# Altium footprint library PH.PcbLib: 64 footprints (part 2 of 4)
Each footprint in its own frame and in the unit in brackets; x right, y up, seen from the top. Pads: shape width x height; smd on the part's side, far side on the other; paste and mask are expansions set on the pad; w line width, h text height; cw(c..) or ccw(c..) is an arc to the next point about the centre after c.
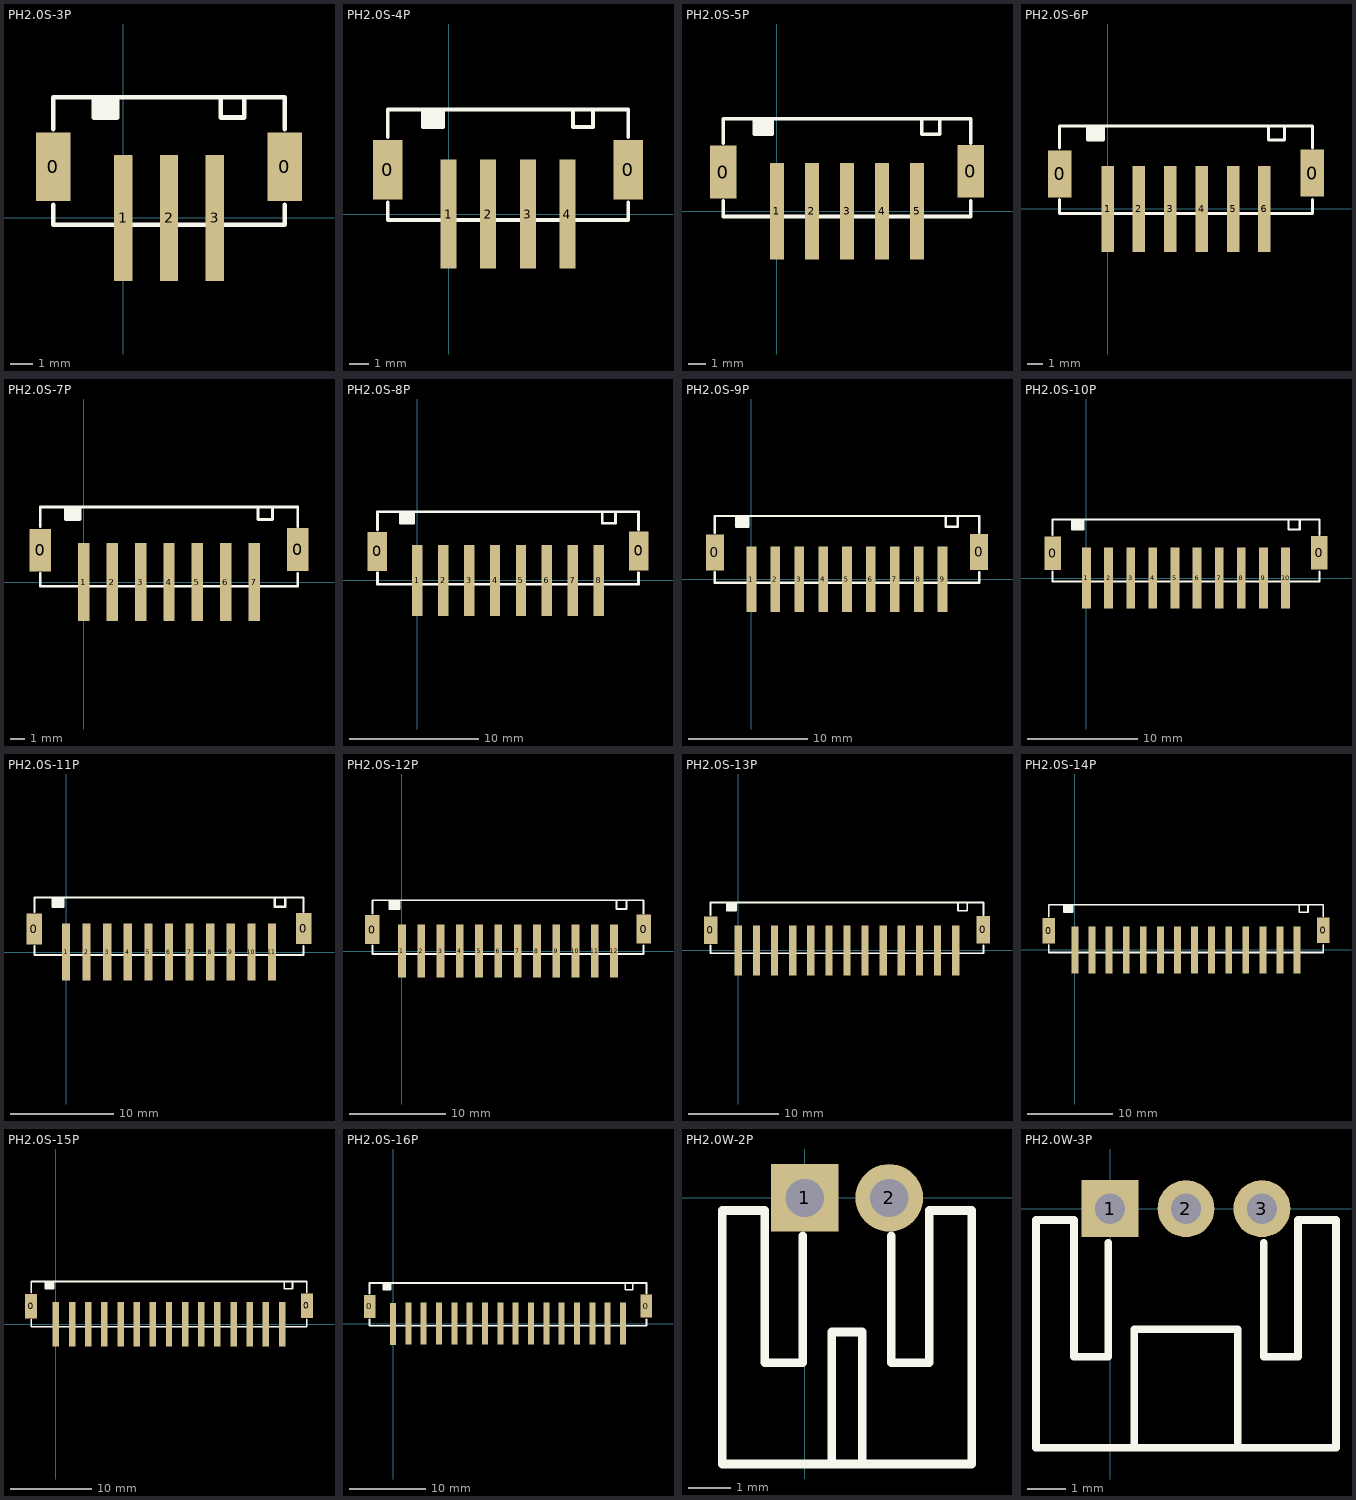
[diagram p1: the footprints below, top view; thin cyan lines are the x and y axes]

## PH2.0S-3P [mm]
pads (5):
  rect 1.5x3 smd: 0(-3.064,2.238) 0(7.064,2.238)
  rect 0.8x5.5 smd: 1(0,0) 2(2,0) 3(4,0)
Top Overlay:
  rectangle: -1.286,4.397 -0.27,5.286
  lines w0.2: -3.064,0.587 -3.064,-0.302 7.064,-0.302 7.064,0.587 ; -3.064,3.889 -3.064,5.286 7.064,5.286 7.064,3.889 ; -1.286,5.286 -1.286,4.397 -0.27,4.397 -0.27,5.286 ; 4.27,5.286 4.27,4.397 5.286,4.397 5.286,5.286
3D body "PH2.0-LS-3P.STEP": height 6.15, standoff 0, extent -2.971,-2.5 7.029,5.3

## PH2.0S-4P [mm]
pads (6):
  rect 1.5x3 smd: 0(-3.064,2.238) 0(9.064,2.238)
  rect 0.8x5.5 smd: 1(0,0) 2(2,0) 3(4,0) 4(6,0)
Top Overlay:
  rectangle: -1.286,4.397 -0.27,5.286
  lines w0.2: -3.064,0.587 -3.064,-0.302 9.064,-0.302 9.064,0.587 ; -3.064,3.889 -3.064,5.286 9.064,5.286 9.064,3.889 ; -1.286,5.286 -1.286,4.397 -0.27,4.397 -0.27,5.286 ; 6.27,5.286 6.27,4.397 7.286,4.397 7.286,5.286
3D body "PH2.0-LS-4P.STEP": height 6.15, standoff 0, extent -3,-2.565 9,5.235

## PH2.0S-5P [mm]
pads (7):
  rect 1.5x3 smd: 0(-3.064,2.238) 0(11.064,2.286)
  rect 0.8x5.5 smd: 1(0,0) 2(2,0) 3(4,0) 4(6,0) 5(8,0)
Top Overlay:
  rectangle: -1.286,4.397 -0.27,5.286
  lines w0.2: -3.064,0.587 -3.064,-0.302 11.064,-0.302 11.064,0.587 ; -3.064,3.889 -3.064,5.286 11.064,5.286 11.064,3.889 ; -1.286,5.286 -1.286,4.397 -0.27,4.397 -0.27,5.286 ; 8.27,5.286 8.27,4.397 9.286,4.397 9.286,5.286
3D body "PH2.0-LS-5P.STEP": height 6.15, standoff 0, extent -3.051,-2.565 10.949,5.235

## PH2.0S-6P [mm]
pads (8):
  rect 1.5x3 smd: 0(-3.064,2.238) 0(13.064,2.286)
  rect 0.8x5.5 smd: 1(0,0) 2(2,0) 3(4,0) 4(6,0) 5(8,0) 6(10,0)
Top Overlay:
  rectangle: -1.286,4.397 -0.27,5.286
  lines w0.2: -3.064,0.587 -3.064,-0.302 13.064,-0.302 13.064,0.587 ; -3.064,3.889 -3.064,5.286 13.064,5.286 13.064,3.889 ; -1.286,5.286 -1.286,4.397 -0.27,4.397 -0.27,5.286 ; 10.27,5.286 10.27,4.397 11.286,4.397 11.286,5.286
3D body "PH2.0-LS-6P.STEP": height 6.15, standoff 0, extent -2.999,-2.5 13.001,5.3

## PH2.0S-7P [mm]
pads (9):
  rect 1.5x3 smd: 0(-3.064,2.238) 0(15.064,2.286)
  rect 0.8x5.5 smd: 1(0,0) 2(2,0) 3(4,0) 4(6,0) 5(8,0) 6(10,0) 7(12,0)
Top Overlay:
  rectangle: -1.286,4.397 -0.27,5.286
  lines w0.2: -3.064,0.587 -3.064,-0.302 15.064,-0.302 15.064,0.587 ; -3.064,3.889 -3.064,5.286 15.064,5.286 15.064,3.889 ; -1.286,5.286 -1.286,4.397 -0.27,4.397 -0.27,5.286 ; 12.27,5.286 12.27,4.397 13.286,4.397 13.286,5.286
3D body "PH2.0-LS-7P.STEP": height 6.15, standoff 0, extent -2.949,-2.616 15.051,5.184

## PH2.0S-8P [mm]
pads (10):
  rect 1.5x3 smd: 0(-3.064,2.238) 0(17.064,2.286)
  rect 0.8x5.5 smd: 1(0,0) 2(2,0) 3(4,0) 4(6,0) 5(8,0) 6(10,0) 7(12,0) 8(14,0)
Top Overlay:
  rectangle: -1.286,4.397 -0.27,5.286
  lines w0.2: -3.064,0.587 -3.064,-0.302 17.064,-0.302 17.064,0.587 ; -3.064,3.889 -3.064,5.286 17.064,5.286 17.064,3.889 ; -1.286,5.286 -1.286,4.397 -0.27,4.397 -0.27,5.286 ; 14.27,5.286 14.27,4.397 15.286,4.397 15.286,5.286
3D body "PH2.0-LS-8P.STEP": height 6.15, standoff 0, extent -3,-2.514 17,5.286

## PH2.0S-9P [mm]
pads (11):
  rect 1.5x3 smd: 0(-3.064,2.238) 0(19.064,2.286)
  rect 0.8x5.5 smd: 1(0,0) 2(2,0) 3(4,0) 4(6,0) 5(8,0) 6(10,0) 7(12,0) 8(14,0) 9(16,0)
Top Overlay:
  rectangle: -1.286,4.397 -0.27,5.286
  lines w0.2: -3.064,0.587 -3.064,-0.302 19.064,-0.302 19.064,0.587 ; -3.064,3.889 -3.064,5.286 19.064,5.286 19.064,3.889 ; -1.286,5.286 -1.286,4.397 -0.27,4.397 -0.27,5.286 ; 16.27,5.286 16.27,4.397 17.286,4.397 17.286,5.286
3D body "PH2.0-LS-9P.STEP": height 6.15, standoff 0, extent -3.078,-2.678 18.922,5.122

## PH2.0S-10P [mm]
pads (12):
  rect 1.5x3 smd: 0(-3.064,2.238) 0(21.064,2.286)
  rect 0.8x5.5 smd: 1(0,0) 2(2,0) 3(4,0) 4(6,0) 5(8,0) 6(10,0) 7(12,0) 8(14,0) 9(16,0)
  rect 0.8x5.5 smd mask+0.102: 10(18,0)
Top Overlay:
  rectangle: -1.286,4.397 -0.27,5.286
  lines w0.2: -3.064,0.587 -3.064,-0.302 21.064,-0.302 21.064,0.587 ; -3.064,3.889 -3.064,5.286 21.064,5.286 21.064,3.889 ; -1.286,5.286 -1.286,4.397 -0.27,4.397 -0.27,5.286 ; 18.27,5.286 18.27,4.397 19.286,4.397 19.286,5.286
3D body "PH2.0-LS-10P.STEP": height 6.15, standoff 0, extent -3,-2.514 21,5.286

## PH2.0S-11P [mm]
pads (13):
  rect 1.5x3 smd: 0(-3.064,2.238) 0(23.064,2.286)
  rect 0.8x5.5 smd: 1(0,0) 2(2,0) 3(4,0) 4(6,0) 5(8,0) 6(10,0) 7(12,0) 8(14,0) 9(16,0)
  rect 0.8x5.5 smd mask+0.102: 10(18,0) 11(20,0)
Top Overlay:
  rectangle: -1.286,4.397 -0.27,5.286
  lines w0.2: -3.064,0.587 -3.064,-0.302 23.064,-0.302 23.064,0.587 ; -3.064,3.889 -3.064,5.286 23.064,5.286 23.064,3.889 ; -1.286,5.286 -1.286,4.397 -0.27,4.397 -0.27,5.286 ; 20.27,5.286 20.27,4.397 21.286,4.397 21.286,5.286
3D body "PH2.0-LS-11P.STEP": height 6.15, standoff 0, extent -3,-2.514 23,5.286

## PH2.0S-12P [mm]
pads (14):
  rect 1.5x3 smd: 0(-3.064,2.238) 0(25.064,2.286)
  rect 0.8x5.5 smd: 1(0,0) 2(2,0) 3(4,0) 4(6,0) 5(8,0) 6(10,0) 7(12,0) 8(14,0) 9(16,0)
  rect 0.8x5.5 smd mask+0.102: 10(18,0) 11(20,0) 12(22,0)
Top Overlay:
  rectangle: -1.286,4.397 -0.27,5.286
  lines w0.2: -3.064,0.587 -3.064,-0.302 25.064,-0.302 25.064,0.587 ; -3.064,3.889 -3.064,5.286 25.064,5.286 25.064,3.889 ; -1.286,5.286 -1.286,4.397 -0.27,4.397 -0.27,5.286 ; 22.27,5.286 22.27,4.397 23.286,4.397 23.286,5.286
3D body "PH2.0-LS-12P.STEP": height 6.15, standoff 0, extent -3.064,-2.514 24.936,5.286

## PH2.0S-13P [mm]
pads (15):
  rect 1.5x3 smd: 0(-3.064,2.238) 0(27.064,2.286)
  rect 0.8x5.5 smd: 1(0,0) 2(2,0) 3(4,0) 4(6,0) 5(8,0) 6(10,0) 7(12,0) 8(14,0) 9(16,0)
  rect 0.8x5.5 smd mask+0.102: 10(18,0) 11(20,0) 12(22,0) 13(24,0)
Top Overlay:
  rectangle: -1.286,4.397 -0.27,5.286
  lines w0.2: -3.064,0.587 -3.064,-0.302 27.064,-0.302 27.064,0.587 ; -3.064,3.889 -3.064,5.286 27.064,5.286 27.064,3.889 ; -1.286,5.286 -1.286,4.397 -0.27,4.397 -0.27,5.286 ; 24.27,5.286 24.27,4.397 25.286,4.397 25.286,5.286
3D body "PH2.0-LS-13P.STEP": height 6.15, standoff 0, extent -2.986,-2.678 27.014,5.122

## PH2.0S-14P [mm]
pads (16):
  rect 1.5x3 smd: 0(-3.064,2.238) 0(29.064,2.286)
  rect 0.8x5.5 smd: 1(0,0) 2(2,0) 3(4,0) 4(6,0) 5(8,0) 6(10,0) 7(12,0) 8(14,0) 9(16,0)
  rect 0.8x5.5 smd mask+0.102: 10(18,0) 11(20,0) 12(22,0) 13(24,0) 14(26,0)
Top Overlay:
  rectangle: -1.286,4.397 -0.27,5.286
  lines w0.2: -3.064,0.587 -3.064,-0.302 29.064,-0.302 29.064,0.587 ; -3.064,3.889 -3.064,5.286 29.064,5.286 29.064,3.889 ; -1.286,5.286 -1.286,4.397 -0.27,4.397 -0.27,5.286 ; 26.27,5.286 26.27,4.397 27.286,4.397 27.286,5.286
3D body "PH2.0-LS-14P.STEP": height 6.15, standoff 0, extent -3.002,-2.551 28.998,5.249

## PH2.0S-15P [mm]
pads (17):
  rect 1.5x3 smd: 0(-3.064,2.238) 0(31.064,2.286)
  rect 0.8x5.5 smd: 1(0,0) 2(2,0) 3(4,0) 4(6,0) 5(8,0) 6(10,0) 7(12,0) 8(14,0) 9(16,0)
  rect 0.8x5.5 smd mask+0.102: 10(18,0) 11(20,0) 12(22,0) 13(24,0) 14(26,0) 15(28,0)
Top Overlay:
  rectangle: -1.286,4.397 -0.27,5.286
  lines w0.2: -3.064,0.587 -3.064,-0.302 31.064,-0.302 31.064,0.587 ; -3.064,3.889 -3.064,5.286 31.064,5.286 31.064,3.889 ; -1.286,5.286 -1.286,4.397 -0.27,4.397 -0.27,5.286 ; 28.27,5.286 28.27,4.397 29.286,4.397 29.286,5.286
3D body "PH2.0-LS-15P.STEP": height 6.15, standoff 0, extent -0.841,-2.939 33.159,4.861

## PH2.0S-16P [mm]
pads (18):
  rect 1.5x3 smd: 0(-3.078,2.286) 0(33.05,2.334)
  rect 0.8x5.5 smd: 1(0,0) 2(1.986,0.048) 3(3.986,0.048) 4(5.986,0.048) 5(7.986,0.048) 6(9.986,0.048) 7(11.986,0.048) 8(13.986,0.048) 9(15.986,0.048)
  rect 0.8x5.5 smd mask+0.102: 10(17.986,0.048) 11(19.986,0.048) 12(21.986,0.048) 13(23.986,0.048) 14(25.986,0.048) 15(27.986,0.048) 16(29.986,0.048)
Top Overlay:
  rectangle: -1.3,4.445 -0.284,5.334
  lines w0.2: -3.078,0.635 -3.078,-0.254 33.05,-0.254 33.05,0.635 ; -3.078,3.937 -3.078,5.334 33.05,5.334 33.05,3.937 ; -1.3,5.334 -1.3,4.445 -0.284,4.445 -0.284,5.334 ; 30.256,5.334 30.256,4.445 31.272,4.445 31.272,5.334
3D body "PH2.0-LS-16P.STEP": height 6.15, standoff 0, extent -3.048,-2.503 32.952,5.297

## PH2.0W-2P [mm]
pads (2):
  rect 1.6x1.6 hole 0.9: 1(0,0)
  round 1.6 hole 0.9: 2(2,0)
Top Overlay:
  lines w0.203: -0.05,-0.9 -0.05,-3.9 -0.95,-3.9 -0.95,-3.3 -0.95,-0.3 -1,-0.3 -1.95,-0.3 -1.95,-6.3 3.95,-6.3 3.95,-0.3 3,-0.3 2.95,-0.3 2.95,-3.3 2.95,-3.9 2.05,-3.9 2.05,-0.9 ; 0.635,-6.215 0.635,-3.175 1.365,-3.175 1.365,-6.215

## PH2.0W-3P [mm]
pads (3):
  rect 1.5x1.5 hole 0.8: 1(0,0)
  round 1.5 hole 0.8: 2(2,0) 3(4,0)
Top Overlay:
  lines w0.203: -0.05,-0.9 -0.05,-3.9 -0.95,-3.9 -0.95,-3.3 -0.95,-0.3 -1,-0.3 -1.95,-0.3 -1.95,-6.3 5.95,-6.3 5.95,-0.3 5,-0.3 4.95,-0.3 4.95,-3.3 4.95,-3.9 4.05,-3.9 4.05,-0.9 ; 0.635,-6.215 0.635,-3.175 3.365,-3.175 3.365,-6.215